# Altium integrated library TSM-103-01-T-SV-P-TR.IntLib: 1 symbol
Pins are listed as number, name and electrical type; pins without a type are passive.

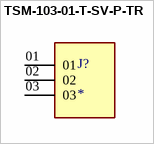
[diagram p0: symbol TSM-103-01-T-SV-P-TR]

## TSM-103-01-T-SV-P-TR
designator J?
MP: TSM-103-01-T-SV-P-TR; MF: Samtec; Package: None; Availability: Unavailable; Value: *; Price: None
footprint SAMTEC_TSM-103-01-T-SV-P-TR
pins: 01, 02, 03